# EAGLE library part EPROM-512KB (library pixel)
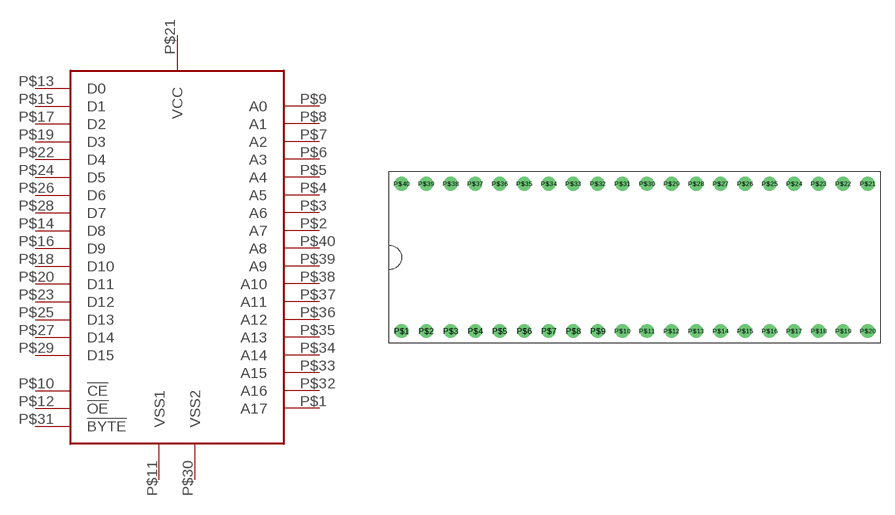
[diagram p25: symbol with the pads of 40-DIP; footprint 40-DIP]

Designator prefix -

## EPROM-512KB  [40-DIP]
P$1  A17
P$2  A7
P$3  A6
P$4  A5
P$5  A4
P$6  A3
P$7  A2
P$8  A1
P$9  A0
P$10  !CE
P$11  VSS1
P$12  !OE
P$13  D0
P$14  D8
P$15  D1
P$16  D9
P$17  D2
P$18  D10
P$19  D3
P$20  D11
P$21  VCC
P$22  D4
P$23  D12
P$24  D5
P$25  D13
P$26  D6
P$27  D14
P$28  D7
P$29  D15
P$30  VSS2
P$31  !BYTE
P$32  A16
P$33  A15
P$34  A14
P$35  A13
P$36  A12
P$37  A11
P$38  A10
P$39  A9
P$40  A8

## Footprint 40-DIP (pad centres in mm)
drill 0.9: P$1 -24.13,-7.62; P$2 -21.59,-7.62; P$3 -19.05,-7.62; P$4 -16.51,-7.62; P$5 -13.97,-7.62; P$6 -11.43,-7.62; P$7 -8.89,-7.62; P$8 -6.35,-7.62; P$9 -3.81,-7.62; P$10 -1.27,-7.62; P$11 1.27,-7.62; P$12 3.81,-7.62; P$13 6.35,-7.62; P$14 8.89,-7.62; P$15 11.43,-7.62; P$16 13.97,-7.62; P$17 16.51,-7.62; P$18 19.05,-7.62; P$19 21.59,-7.62; P$20 24.13,-7.62; P$21 24.13,7.62; P$22 21.59,7.62; P$23 19.05,7.62; P$24 16.51,7.62; P$25 13.97,7.62; P$26 11.43,7.62; P$27 8.89,7.62; P$28 6.35,7.62; P$29 3.81,7.62; P$30 1.27,7.62; P$31 -1.27,7.62; P$32 -3.81,7.62; P$33 -6.35,7.62; P$34 -8.89,7.62; P$35 -11.43,7.62; P$36 -13.97,7.62; P$37 -16.51,7.62; P$38 -19.05,7.62; P$39 -21.59,7.62; P$40 -24.13,7.62